# Altium schematic symbol library Howard.SchLib: 217 symbols (part 3 of 5)
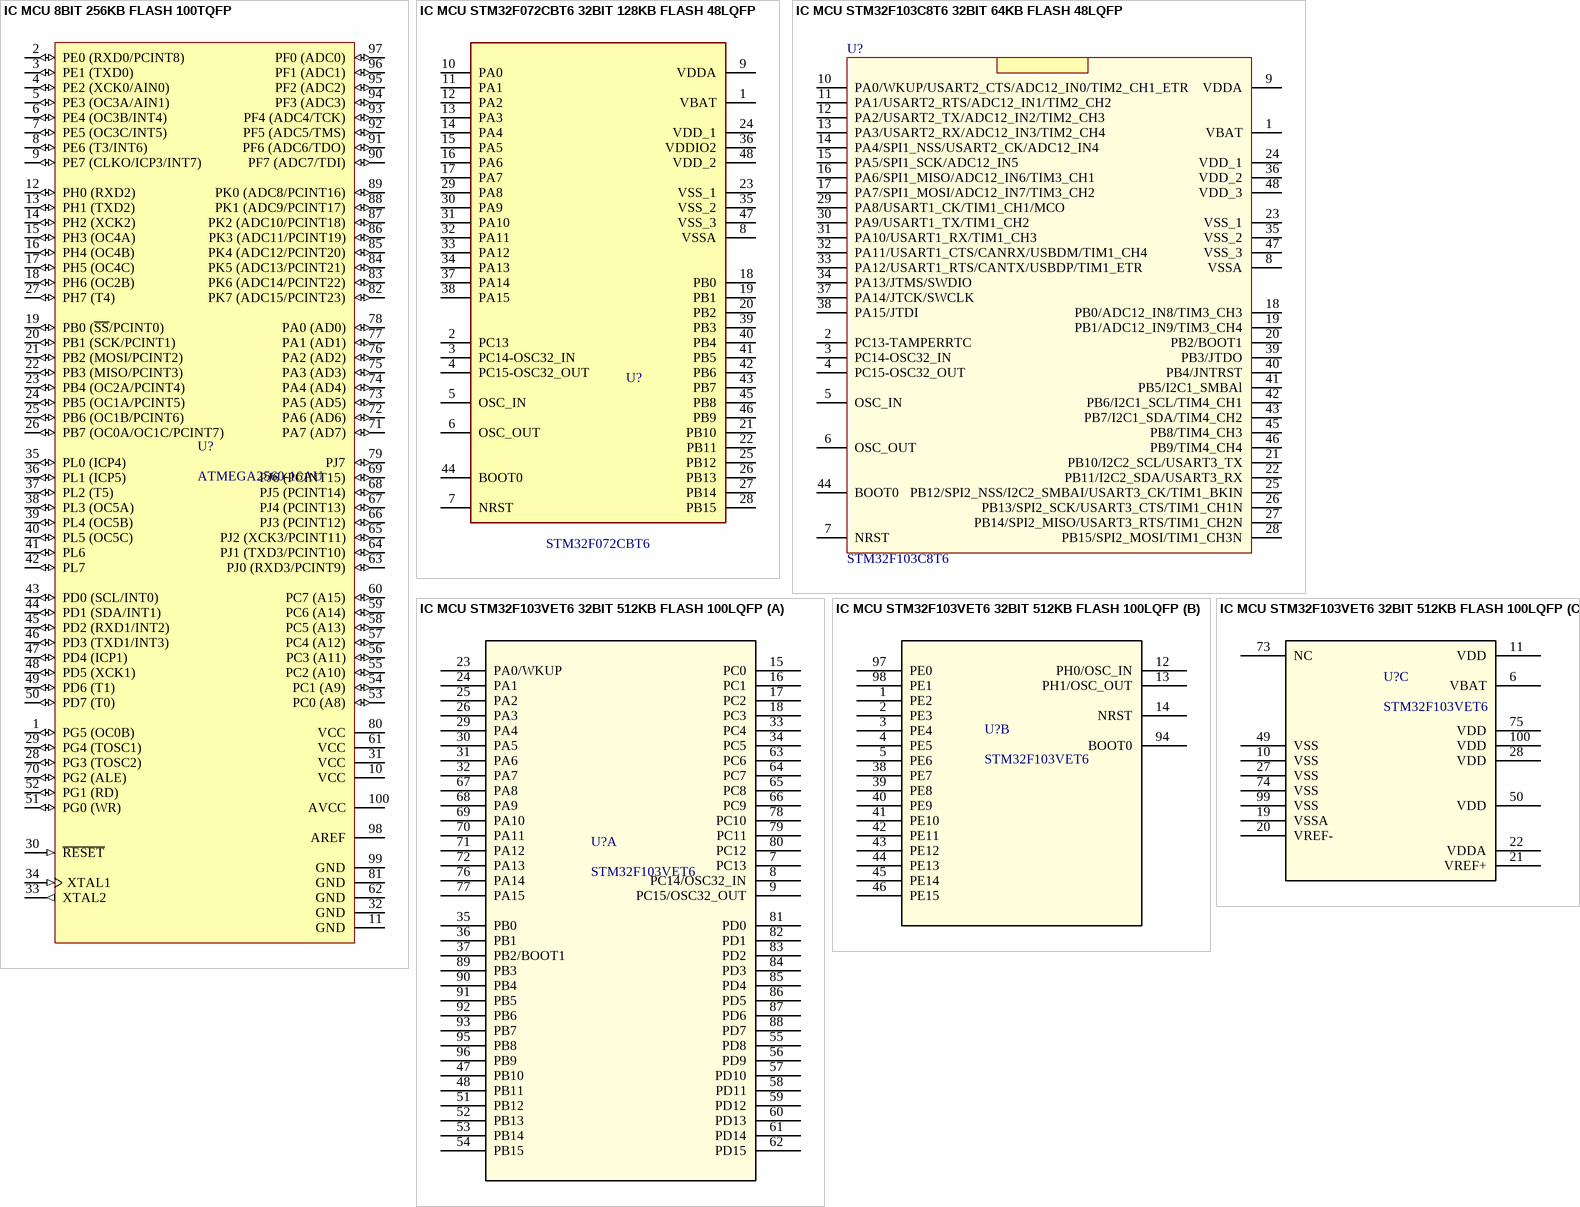
[diagram p9: symbols IC MCU 8BIT 256KB FLASH 100TQFP to IC MCU STM32F103VET6 32BIT 512KB FLASH 100LQFP]

## IC MCU 8BIT 256KB FLASH 100TQFP
designator U?, comment ATMEGA2560-16AU
ATmega Series 256 kB Flash 8 kB SRAM 16 MHz 8-Bit Microcontroller - TQFP-100; Manufacturer: Microchip / Atmel; Number of Terminals/Pins: 100; Package Body Material: Plastic; Core Architecture: AVR; Frequency: 16MHz; Interface: I2C,SPI,UART,USART,EBI/EMI,2-Wire; Number of I/Os: 86; Oscillator Type: Internal; Data Bus Width: 8b; Memory Size: 256KB; Peripherals: PWM,Brown-out Detect/Reset,POR,WDT; Min Supply Voltage: 4.5V; Max Supply Voltage: 5.5V; Number of PWM Channels: 12; Operating Supply Voltage: 5V; RAM Size: 8KB; Number of Timers/Counters: 6; Number of ADC Channels: 16; Number of SPI Channels: 1; Watchdog Timer: Yes; Access Time: 16us; Time @ Peak Reflow Temperature-Max (s): 40s; Supplier 1: Digi-Key; Manufacturer Part Number: ATMEGA2560-16AU; Stock 1: 44194; Pricing 1: 1=14.82 (USD); Mount: Surface Mount; Case/Package: A; Number of Pins: 100; Package Code: TFQFP; Package Shape: Square; Terminal Finish: Tin; Min Operating Temperature: -40°C; Max Operating Temperature: 85°C; Series: AVR® ATmega; Package Quantity: 90; Packaging: Tray; Memory Type: FLASH; Density: 256KB; Number of Programmable I/O: 86; Max Frequency: 16MHz; Number of I2C Channels: 1; Termination: SMD/SMT; Terminal Form: Gull Wing; JESD-30 Code: S-PQFP-G100; Surface Mount: Yes; Terminal Position: QUAD; Number of I/O Lines: 86; Moisture Sensitivity Level: 3; Technology: CMOS; Peak Reflow Temperature (Cel): 260°C; Length: 14.1mm; Width: 14.1mm; Height: 1.05mm; Radiation Hardening: No; Reach SVHC Compliant: Yes; Lead Free: Lead Free; RoHS Compliant: Yes; Temperature Grade: INDUSTRIAL; ComponentLink1URL: https://datasheet.ciiva.com/22651/1698622-22651116.pdf?src-supplier=Farnell; ComponentLink1Description: https://datasheet.ciiva.com/22651/1698622-22651116.pdf?src-supplier=Farnell; ComponentLink2URL: https://datasheet.ciiva.com/15122/getdatasheetpartid-134542-15122545.pdf?src-supplier=Verical; ComponentLink2Description: https://datasheet.ciiva.com/15122/getdatasheetpartid-134542-15122545.pdf?src-supplier=Verical; ComponentLink3URL: https://datasheet.ciiva.com/29119/154804-da-01-en-atmega2560-16au-tqfp-100-29119580.pdf?src-supplier=Conrad; ComponentLink3Description: https://datasheet.ciiva.com/29119/154804-da-01-en-atmega2560-16au-tqfp-100-29119580.pdf?src-supplier=Conrad; ComponentLink4URL: https://datasheet.ciiva.com/1157/1817551-1157521.pdf?src-supplier=Element14; ComponentLink4Description: https://datasheet.ciiva.com/1157/1817551-1157521.pdf?src-supplier=Element14; ComponentLink5URL: https://datasheet.ciiva.com/16936/70123980-16936268.pdf?src-supplier=Allied+Electronics; ComponentLink5Description: https://datasheet.ciiva.com/16936/70123980-16936268.pdf?src-supplier=Allied+Electronics; Supplier Part Number 1: ATMEGA2560-16AU-ND
footprint LQFP100-14x14mm
pins: 1 PG5 (OC0B) (io), 2 PE0 (RXD0/PCINT8) (io), 3 PE1 (TXD0) (io), 4 PE2 (XCK0/AIN0) (io), 5 PE3 (OC3A/AIN1) (io), 6 PE4 (OC3B/INT4) (io), 7 PE5 (OC3C/INT5) (io), 8 PE6 (T3/INT6) (io), 9 PE7 (CLKO/ICP3/INT7) (io), 10 VCC (power), 11 GND (power), 12 PH0 (RXD2) (io), 13 PH1 (TXD2) (io), 14 PH2 (XCK2) (io), 15 PH3 (OC4A) (io), 16 PH4 (OC4B) (io), 17 PH5 (OC4C) (io), 18 PH6 (OC2B) (io), 19 PB0 (~{SS}/PCINT0) (io), 20 PB1 (SCK/PCINT1) (io), 21 PB2 (MOSI/PCINT2) (io), 22 PB3 (MISO/PCINT3) (io), 23 PB4 (OC2A/PCINT4) (io), 24 PB5 (OC1A/PCINT5) (io), 25 PB6 (OC1B/PCINT6) (io), 26 PB7 (OC0A/OC1C/PCINT7) (io), 27 PH7 (T4) (io), 28 PG3 (TOSC2) (io), 29 PG4 (TOSC1) (io), 30 ~{RESET} (in), 31 VCC (power), 32 GND (power), 33 XTAL2 (out), 34 XTAL1 (in), 35 PL0 (ICP4) (io), 36 PL1 (ICP5) (io), 37 PL2 (T5) (io), 38 PL3 (OC5A) (io), 39 PL4 (OC5B) (io), 40 PL5 (OC5C) (io), 41 PL6 (io), 42 PL7 (io), 43 PD0 (SCL/INT0) (io), 44 PD1 (SDA/INT1) (io), 45 PD2 (RXD1/INT2) (io), 46 PD3 (TXD1/INT3) (io), 47 PD4 (ICP1) (io), 48 PD5 (XCK1) (io), 49 PD6 (T1) (io), 50 PD7 (T0) (io), 51 PG0 (WR) (io), 52 PG1 (RD) (io), 53 PC0 (A8) (io), 54 PC1 (A9) (io), 55 PC2 (A10) (io), 56 PC3 (A11) (io), 57 PC4 (A12) (io), 58 PC5 (A13) (io), 59 PC6 (A14) (io), 60 PC7 (A15) (io), 61 VCC (power), 62 GND (power), 63 PJ0 (RXD3/PCINT9) (io), 64 PJ1 (TXD3/PCINT10) (io), 65 PJ2 (XCK3/PCINT11) (io), 66 PJ3 (PCINT12) (io), 67 PJ4 (PCINT13) (io), 68 PJ5 (PCINT14) (io), 69 PJ6 (PCINT15) (io), 70 PG2 (ALE) (io), 71 PA7 (AD7) (io), 72 PA6 (AD6) (io), 73 PA5 (AD5) (io), 74 PA4 (AD4) (io), 75 PA3 (AD3) (io), 76 PA2 (AD2) (io), 77 PA1 (AD1) (io), 78 PA0 (AD0) (io), 79 PJ7 (io), 80 VCC (power), 81 GND (power), 82 PK7 (ADC15/PCINT23) (io), 83 PK6 (ADC14/PCINT22) (io), 84 PK5 (ADC13/PCINT21) (io), 85 PK4 (ADC12/PCINT20) (io), 86 PK3 (ADC11/PCINT19) (io), 87 PK2 (ADC10/PCINT18) (io), 88 PK1 (ADC9/PCINT17) (io), 89 PK0 (ADC8/PCINT16) (io), 90 PF7 (ADC7/TDI) (io), 91 PF6 (ADC6/TDO) (io), 92 PF5 (ADC5/TMS) (io), 93 PF4 (ADC4/TCK) (io), 94 PF3 (ADC3) (io), 95 PF2 (ADC2) (io), 96 PF1 (ADC1) (io), 97 PF0 (ADC0) (io), 98 AREF (power), 99 GND (power), 100 AVCC (power)

## IC MCU STM32F072CBT6 32BIT 128KB FLASH 48LQFP
designator U?, comment STM32F072CBT6
MCU 32-Bit GP STM32F 32MHz ARM Cortex M0+ RISC 128kB Flash 48-Pin LQFP T/R; Manufacturer: STMicroelectronics; Manufacturer Part Number: STM32F072CBT6TR; Max Power Dissipation: 370mW; RAM Size: 16KB; Interface: I2C,SPI,USB,CAN,HDMI,IrDA,UART,USART,LIN,I2S; Number of I/Os: 37; Data Bus Width: 32b; Max Frequency: 48MHz; Number of Timers/Counters: 9; Oscillator Type: Internal; Watchdog Timer: Yes; Peripherals: POR,PWM,WDT,DMA; Datasheet Link: https://datasheet.lcsc.com/lcsc/2304140030_STMicroelectronics-STM32F072CBT6_C81720.pdf; Distributor: LCSC; Distributor PN: C81720; Manufacturer PN: STM32F072CBT6; Price: $1.6164; Sale Link: https://www.lcsc.com/product-detail/Microcontroller-Units-MCUs-MPUs-SOCs_STMicroelectronics-STM32F072CBT6_C81720.html; Supplier 1: Mouser; RoHS: Yes; Category: Microcontrollers; Stock 1: 3974; Pricing 1: 1=5.37, 10=4.83, 50=4.83, 100=3.95, 1000=2.84, 10000=2.69 (USD); Case/Package: LQFP; Number of Pins: 48; Min Operating Temperature: -40°C; Max Operating Temperature: 85°C; Package Quantity: 2400; Series: STM32 F0; Packaging: Tape and Reel; Memory Type: FLASH; Memory Size: 128KB; Core Architecture: ARM; Number of Programmable I/O: 37; RoHS Compliant: Yes; Lead Free: Lead Free; ComponentLink1URL: https://datasheet.ciiva.com/48492/dm00090510-48492505.pdf?src-supplier=Avnet; ComponentLink1Description: https://datasheet.ciiva.com/48492/dm00090510-48492505.pdf?src-supplier=Avnet; Supplier Part Number 1: 511-STM32F072CBT6TR; Value: STM32F072CBT6
footprint LQFP48-B
pins: 1 VBAT, 2 PC13, 3 PC14-OSC32_IN, 4 PC15-OSC32_OUT, 5 OSC_IN, 6 OSC_OUT, 7 NRST, 8 VSSA, 9 VDDA, 10 PA0, 11 PA1, 12 PA2, 13 PA3, 14 PA4, 15 PA5, 16 PA6, 17 PA7, 18 PB0, 19 PB1, 20 PB2, 21 PB10, 22 PB11, 23 VSS_1, 24 VDD_1, 25 PB12, 26 PB13, 27 PB14, 28 PB15, 29 PA8, 30 PA9, 31 PA10, 32 PA11, 33 PA12, 34 PA13, 35 VSS_2, 36 VDDIO2, 37 PA14, 38 PA15, 39 PB3, 40 PB4, 41 PB5, 42 PB6, 43 PB7, 44 BOOT0, 45 PB8, 46 PB9, 47 VSS_3, 48 VDD_2

## IC MCU STM32F103C8T6 32BIT 64KB FLASH 48LQFP
designator U?, comment STM32F103C8T6
ARM Microcontrollers - MCU 32BIT Cortex M3 64KB 20KB RAM 2X12 ADC; Manufacturer: STMicroelectronics; Frequency: 72MHz; Max Power Dissipation: 363mW; Interface: I2C,SPI,USB,CAN,IrDA,UART,USART,LIN; Number of I/Os: 37; Number of Timers/Counters: 4; Max Supply Voltage: 3.6V; Number of ADC Channels: 10; Min Supply Voltage: 2V; Oscillator Type: Internal; Number of Programmable I/O: 48; Data Bus Width: 32b; Number of Bits: 32; Memory Type: FLASH; Watchdog Timer: Yes; Peripherals: POR,PWM,WDT,DMA,Temp Sensor,I2C; Number of PWM Channels: 1; Number of SPI Channels: 2; .Creator: Giang.Le; Supplier 1: Digi-Key; Manufacturer Part Number: STM32F103C8T6; Stock 1: 1032; Pricing 1: 1=6.06, 10=5.438, 100=4.4558, 250=4.2272, 500=3.7931, 1000=3.199 (USD); Case/Package: LQFP; Number of Pins: 48; Min Operating Temperature: -40°C; Max Operating Temperature: 85°C; RAM Size: 20KB; Packaging: Tray; Package Quantity: 250; Density: 64KB; Max Frequency: 72MHz; Memory Size: 64KB; Core Architecture: ARM; Termination: SMD/SMT; Number of I2C Channels: 2; Address Bus Width: 32b; Length: 7mm; Height: 1.45mm; Width: 7.2mm; Radiation Hardening: No; Lead Free: Lead Free; REACH SVHC: No SVHC; ComponentLink1URL: http://www.st.com/web/en/resource/technical/document/datasheet/CD00161566.pdf?src-supplier=Future+Electronics; ComponentLink1Description: http://www.st.com/web/en/resource/technical/document/datasheet/CD00161566.pdf?src-supplier=Future+Electronics; ComponentLink2URL: https://www.distrelec.biz/Web/Downloads/3_/en/puSTM_ARM-MicroCont-STM32F103_EN.pdf?mime=application%2Fpdf&src-supplier=Distrelec; ComponentLink2Description: https://www.distrelec.biz/Web/Downloads/3_/en/puSTM_ARM-MicroCont-STM32F103_EN.pdf?mime=application%2Fpdf&src-supplier=Distrelec; ComponentLink3URL: https://www.verical.com/server-webapp/html/getDatasheet?partID=69880&src-supplier=Verical; ComponentLink3Description: https://www.verical.com/server-webapp/html/getDatasheet?partID=69880&src-supplier=Verical; ComponentLink4URL: http://www.farnell.com/datasheets/1730126.pdf?src-supplier=Element14; ComponentLink4Description: http://www.farnell.com/datasheets/1730126.pdf?src-supplier=Element14; ComponentLink5URL: http://www.produktinfo.conrad.com/datenblaetter/1000000-1099999/001075658-da-01-en-MCU_64KB_MEM_STM32F103C8T6_LQFP_48_STM.pdf?src-supplier=Conrad; ComponentLink5Description: http://www.produktinfo.conrad.com/datenblaetter/1000000-1099999/001075658-da-01-en-MCU_64KB_MEM_STM32F103C8T6_LQFP_48_STM.pdf?src-supplier=Conrad; ComponentLink6URL: http://datasheet.iiic.cc/stmicroelectronics/STM32F103C8T6.pdf?src-supplier=IIIC; ComponentLink6Description: http://datasheet.iiic.cc/stmicroelectronics/STM32F103C8T6.pdf?src-supplier=IIIC; Supplier Part Number 1: 497-6063-ND; .Checked By: *
footprint LQFP48-B (TSQFP, 48-Leads, Body 7.00x7.00mm, Pitch 0.50mm, IPC Medium Density)
pins: 1 VBAT, 2 PC13-TAMPERRTC, 3 PC14-OSC32_IN, 4 PC15-OSC32_OUT, 5 OSC_IN, 6 OSC_OUT, 7 NRST, 8 VSSA, 9 VDDA, 10 PA0/WKUP/USART2_CTS/ADC12_IN0/TIM2_CH1_ETR, 11 PA1/USART2_RTS/ADC12_IN1/TIM2_CH2, 12 PA2/USART2_TX/ADC12_IN2/TIM2_CH3, 13 PA3/USART2_RX/ADC12_IN3/TIM2_CH4, 14 PA4/SPI1_NSS/USART2_CK/ADC12_IN4, 15 PA5/SPI1_SCK/ADC12_IN5, 16 PA6/SPI1_MISO/ADC12_IN6/TIM3_CH1, 17 PA7/SPI1_MOSI/ADC12_IN7/TIM3_CH2, 18 PB0/ADC12_IN8/TIM3_CH3, 19 PB1/ADC12_IN9/TIM3_CH4, 20 PB2/BOOT1, 21 PB10/I2C2_SCL/USART3_TX, 22 PB11/I2C2_SDA/USART3_RX, 23 VSS_1, 24 VDD_1, 25 PB12/SPI2_NSS/I2C2_SMBAI/USART3_CK/TIM1_BKIN, 26 PB13/SPI2_SCK/USART3_CTS/TIM1_CH1N, 27 PB14/SPI2_MISO/USART3_RTS/TIM1_CH2N, 28 PB15/SPI2_MOSI/TIM1_CH3N, 29 PA8/USART1_CK/TIM1_CH1/MCO, 30 PA9/USART1_TX/TIM1_CH2, 31 PA10/USART1_RX/TIM1_CH3, 32 PA11/USART1_CTS/CANRX/USBDM/TIM1_CH4, 33 PA12/USART1_RTS/CANTX/USBDP/TIM1_ETR, 34 PA13/JTMS/SWDIO, 35 VSS_2, 36 VDD_2, 37 PA14/JTCK/SWCLK, 38 PA15/JTDI, 39 PB3/JTDO, 40 PB4/JNTRST, 41 PB5/I2C1_SMBAl, 42 PB6/I2C1_SCL/TIM4_CH1, 43 PB7/I2C1_SDA/TIM4_CH2, 44 BOOT0, 45 PB8/TIM4_CH3, 46 PB9/TIM4_CH4, 47 VSS_3, 48 VDD_3

## IC MCU STM32F103VET6 32BIT 512KB FLASH 100LQFP
designator U?, comment STM32F103VET6
No Description Available; Mfr_Name: STMicroelectronics; Manufacturer Part Number: STM32F103VET6TR; Interface: I2C,SPI,CAN,USART,USB,IrDA,UART,LIN; Core Architecture: ARM; Frequency: 72MHz; RAM Size: 64KB; Max Supply Voltage: 3.6V; Max Power Dissipation: 434mW; Number of I/Os: 80; Number of Timers/Counters: 8; Min Supply Voltage: 2V; Data Bus Width: 32b; Oscillator Type: Internal; Watchdog Timer: Yes; Memory Type: FLASH; Memory Size: 512KB; Peripherals: POR,PWM,WDT,DMA,Temp Sensor,I2C; RefDes: RefDes; Type: Type; Supplier 1: Digi-Key; Manufacturer: STMicroelectronics; Stock 1: 997; Pricing 1: 1=11.36, 10=10.444, 25=10.0112, 100=8.8208, 250=8.38784, 500=7.8467 (USD); Case/Package: LQFP; Number of Pins: 100; Contact Plating: Copper,Tin,Silver; Min Operating Temperature: -40°C; Max Operating Temperature: 85°C; Package Quantity: 1000; Packaging: Tape and Reel; Series: STM32 F1; Number of Programmable I/O: 80; Max Frequency: 72MHz; Radiation Hardening: No; Lead Free: Lead Free; RoHS Compliant: Yes; ComponentLink1URL: https://datasheet.ciiva.com/16289/cd00191185-16289086.pdf?src-supplier=Future+Electronics; ComponentLink1Description: https://datasheet.ciiva.com/16289/cd00191185-16289086.pdf?src-supplier=Future+Electronics; ComponentLink2URL: https://datasheet.ciiva.com/6645/cd00191185-6645573.pdf?src-supplier=Digi-Key; ComponentLink2Description: https://datasheet.ciiva.com/6645/cd00191185-6645573.pdf?src-supplier=Digi-Key; Supplier Part Number 1: 497-17394-6-ND
footprint LQFP100-14x14mm
part A pins: 7 PC13, 8 PC14/OSC32_IN, 9 PC15/OSC32_OUT, 15 PC0, 16 PC1, 17 PC2, 18 PC3, 23 PA0/WKUP, 24 PA1, 25 PA2, 26 PA3, 29 PA4, 30 PA5, 31 PA6, 32 PA7, 33 PC4, 34 PC5, 35 PB0, 36 PB1, 37 PB2/BOOT1, 47 PB10, 48 PB11, 51 PB12, 52 PB13, 53 PB14, 54 PB15, 55 PD8, 56 PD9, 57 PD10, 58 PD11, 59 PD12, 60 PD13, 61 PD14, 62 PD15, 63 PC6, 64 PC7, 65 PC8, 66 PC9, 67 PA8, 68 PA9, 69 PA10, 70 PA11, 71 PA12, 72 PA13, 76 PA14, 77 PA15, 78 PC10, 79 PC11, 80 PC12, 81 PD0, 82 PD1, 83 PD2, 84 PD3, 85 PD4, 86 PD5, 87 PD6, 88 PD7, 89 PB3, 90 PB4, 91 PB5, 92 PB6, 93 PB7, 95 PB8, 96 PB9
part B pins: 1 PE2, 2 PE3, 3 PE4, 4 PE5, 5 PE6, 12 PH0/OSC_IN, 13 PH1/OSC_OUT, 14 NRST, 38 PE7, 39 PE8, 40 PE9, 41 PE10, 42 PE11, 43 PE12, 44 PE13, 45 PE14, 46 PE15, 94 BOOT0, 97 PE0, 98 PE1
part C pins: 6 VBAT (power), 10 VSS (power), 11 VDD (power), 19 VSSA (power), 20 VREF- (power), 21 VREF+ (power), 22 VDDA (power), 27 VSS (power), 28 VDD (power), 49 VSS (power), 50 VDD (power), 73 NC (power), 74 VSS (power), 75 VDD (power), 99 VSS (power), 100 VDD (power)

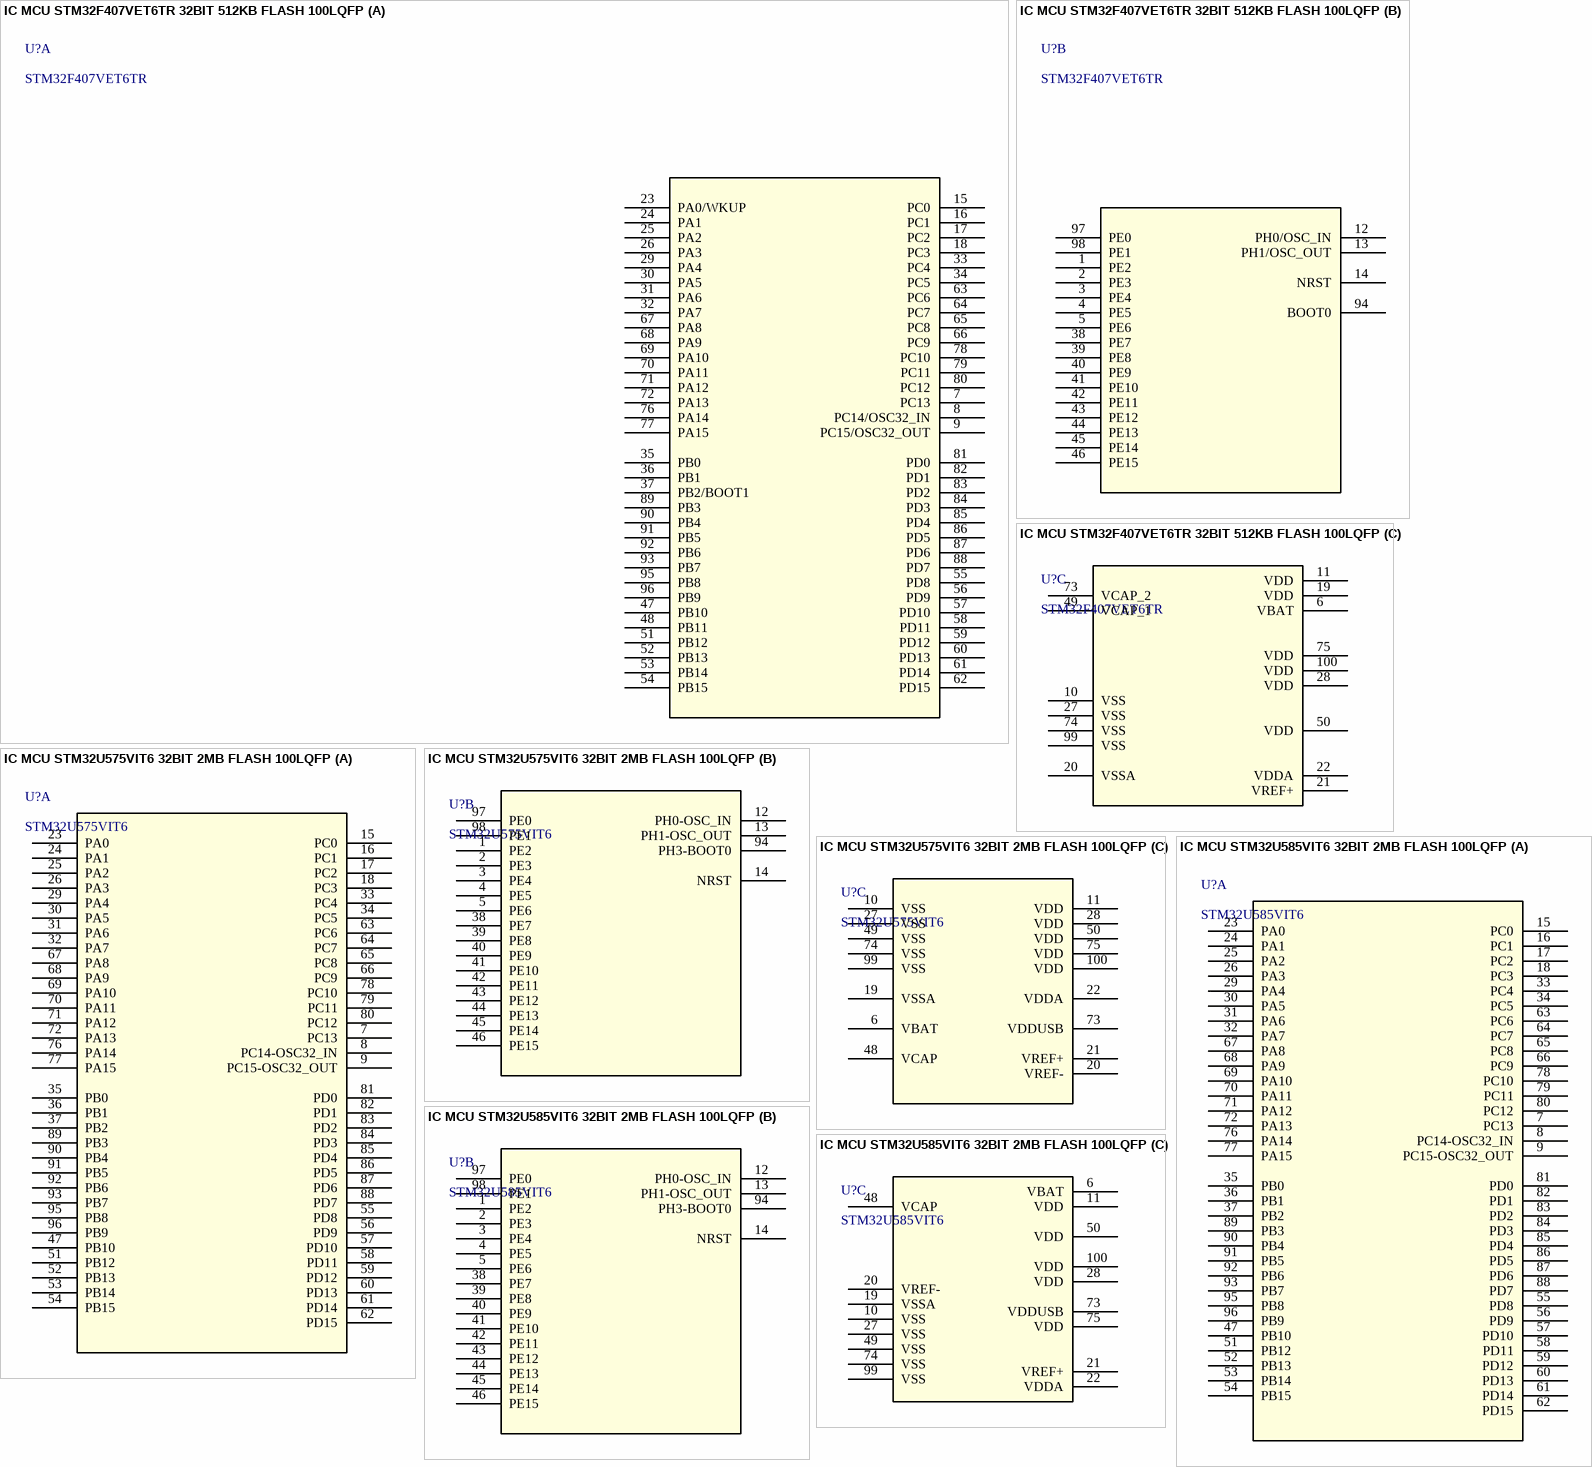
[diagram p4: symbols IC MCU STM32F407VET6TR 32BIT 512KB FLASH 100LQFP to IC MCU STM32U585VIT6 32BIT 2MB FLASH 100LQFP]

## IC MCU STM32F407VET6TR 32BIT 512KB FLASH 100LQFP
designator U?, comment STM32F407VET6TR
ARM® Cortex®-M4 STM32F4 Microcontroller IC 32-Bit Single-Core 168MHz 512KB (512K x 8) FLASH 100-LQFP (14x14); Mfr_Name: STMicroelectronics; Interface: I2C,SPI,USB,CAN,Ethernet,IrDA,UART,USART,LIN,EBI/EMI; Number of I/Os: 82; Oscillator Type: Internal; Peripherals: Brown-out Detect/Reset,POR,PWM,WDT,DMA,LCD; Core Architecture: ARM; RefDes: RefDes; Type: Type; Supplier 1: Digi-Key; Manufacturer: STMicroelectronics; Manufacturer Part Number: STM32F407VET6TR; Stock 1: 0; Pricing 1: 1=13.38, 10=12.299, 25=11.7896, 100=10.3876, 250=9.8778, 500=9.2405 (USD); Case/Package: LQFP; Min Operating Temperature: -40°C; Max Operating Temperature: 85°C; Packaging: Tape and Reel; Frequency: 168MHz; Memory Type: FLASH; Memory Size: 512KB; Series: STM32 F4; RoHS Compliant: Yes; ComponentLink1URL: http://www.mouser.com/ds/2/389/stm32f405rg-956214.pdf?src-supplier=Mouser; ComponentLink1Description: http://www.mouser.com/ds/2/389/stm32f405rg-956214.pdf?src-supplier=Mouser; ComponentLink2URL: http://www.st.com/web/en/resource/technical/document/datasheet/DM00037051.pdf?src-supplier=Avnet; ComponentLink2Description: http://www.st.com/web/en/resource/technical/document/datasheet/DM00037051.pdf?src-supplier=Avnet; ComponentLink3URL: http://www.st.com/content/ccc/resource/technical/document/datasheet/ef/92/76/6d/bb/c2/4f/f7/DM00037051.pdf/files/DM00037051.pdf/jcr:content/translations/en.DM00037051.pdf?src-supplier=Digi-Key; ComponentLink3Description: http://www.st.com/content/ccc/resource/technical/document/datasheet/ef/92/76/6d/bb/c2/4f/f7/DM00037051.pdf/files/DM00037051.pdf/jcr:content/translations/en.DM00037051.pdf?src-supplier=Digi-Key; Supplier Part Number 1: 497-19657-1-ND
footprint LQFP100-14x14mm
part A pins: 7 PC13, 8 PC14/OSC32_IN, 9 PC15/OSC32_OUT, 15 PC0, 16 PC1, 17 PC2, 18 PC3, 23 PA0/WKUP, 24 PA1, 25 PA2, 26 PA3, 29 PA4, 30 PA5, 31 PA6, 32 PA7, 33 PC4, 34 PC5, 35 PB0, 36 PB1, 37 PB2/BOOT1, 47 PB10, 48 PB11, 51 PB12, 52 PB13, 53 PB14, 54 PB15, 55 PD8, 56 PD9, 57 PD10, 58 PD11, 59 PD12, 60 PD13, 61 PD14, 62 PD15, 63 PC6, 64 PC7, 65 PC8, 66 PC9, 67 PA8, 68 PA9, 69 PA10, 70 PA11, 71 PA12, 72 PA13, 76 PA14, 77 PA15, 78 PC10, 79 PC11, 80 PC12, 81 PD0, 82 PD1, 83 PD2, 84 PD3, 85 PD4, 86 PD5, 87 PD6, 88 PD7, 89 PB3, 90 PB4, 91 PB5, 92 PB6, 93 PB7, 95 PB8, 96 PB9
part B pins: 1 PE2, 2 PE3, 3 PE4, 4 PE5, 5 PE6, 12 PH0/OSC_IN, 13 PH1/OSC_OUT, 14 NRST, 38 PE7, 39 PE8, 40 PE9, 41 PE10, 42 PE11, 43 PE12, 44 PE13, 45 PE14, 46 PE15, 94 BOOT0, 97 PE0, 98 PE1
part C pins: 6 VBAT (power), 10 VSS (power), 11 VDD (power), 19 VDD (power), 20 VSSA (power), 21 VREF+ (power), 22 VDDA (power), 27 VSS (power), 28 VDD (power), 49 VCAP_1 (power), 50 VDD (power), 73 VCAP_2 (power), 74 VSS (power), 75 VDD (power), 99 VSS (power), 100 VDD (power)

## IC MCU STM32U575VIT6 32BIT 2MB FLASH 100LQFP
designator U?, comment STM32U575VIT6
ARM® Cortex®-M33 STM32U5 Microcontroller IC 32-Bit 160MHz 2MB (2M x 8) FLASH 100-LQFP (14x14); Mfr_Name: STMicroelectronics; Manufacturer Part Number: STM32U575VIT6Q; RefDes: RefDes; Type: Type; Supplier 1: Digi-Key; Manufacturer: STMicroelectronics; Stock 1: 0; Pricing 1: 1=11.87, 10=10.913, 25=10.4608, 100=9.2168, 250=8.7644, 500=8.19898, 1000=8.0016 (USD); Supplier Part Number 1: 497-STM32U575VIT6Q-ND
footprint LQFP100-14x14mm
part A pins: 7 PC13, 8 PC14-OSC32_IN, 9 PC15-OSC32_OUT, 15 PC0, 16 PC1, 17 PC2, 18 PC3, 23 PA0, 24 PA1, 25 PA2, 26 PA3, 29 PA4, 30 PA5, 31 PA6, 32 PA7, 33 PC4, 34 PC5, 35 PB0, 36 PB1, 37 PB2, 47 PB10, 51 PB12, 52 PB13, 53 PB14, 54 PB15, 55 PD8, 56 PD9, 57 PD10, 58 PD11, 59 PD12, 60 PD13, 61 PD14, 62 PD15, 63 PC6, 64 PC7, 65 PC8, 66 PC9, 67 PA8, 68 PA9, 69 PA10, 70 PA11, 71 PA12, 72 PA13, 76 PA14, 77 PA15, 78 PC10, 79 PC11, 80 PC12, 81 PD0, 82 PD1, 83 PD2, 84 PD3, 85 PD4, 86 PD5, 87 PD6, 88 PD7, 89 PB3, 90 PB4, 91 PB5, 92 PB6, 93 PB7, 95 PB8, 96 PB9
part B pins: 1 PE2, 2 PE3, 3 PE4, 4 PE5, 5 PE6, 12 PH0-OSC_IN, 13 PH1-OSC_OUT, 14 NRST, 38 PE7, 39 PE8, 40 PE9, 41 PE10, 42 PE11, 43 PE12, 44 PE13, 45 PE14, 46 PE15, 94 PH3-BOOT0, 97 PE0, 98 PE1
part C pins: 6 VBAT, 10 VSS, 11 VDD, 19 VSSA, 20 VREF-, 21 VREF+, 22 VDDA, 27 VSS, 28 VDD, 48 VCAP, 49 VSS, 50 VDD, 73 VDDUSB, 74 VSS, 75 VDD, 99 VSS, 100 VDD

## IC MCU STM32U585VIT6 32BIT 2MB FLASH 100LQFP
designator U?, comment STM32U585VIT6
ARM® Cortex®-M33 STM32U5 Microcontroller IC 32-Bit 160MHz 2MB (2M x 8) FLASH 100-LQFP (14x14); Mfr_Name: STMicroelectronics; Manufacturer Part Number: STM32U575VIT6Q; RefDes: RefDes; Type: Type; Manufacturer: STMicroelectronics; Supplier 1: Digi-Key; Stock 1: 497; Pricing 1: 1=12.12, 10=11.142, 25=10.6804, 100=9.4103, 250=8.94844, 500=8.37112, 1000=8.1696 (USD); Supplier Part Number 1: 497-STM32U585VIT6-ND
footprint LQFP100-14x14mm
part A pins: 7 PC13, 8 PC14-OSC32_IN, 9 PC15-OSC32_OUT, 15 PC0, 16 PC1, 17 PC2, 18 PC3, 23 PA0, 24 PA1, 25 PA2, 26 PA3, 29 PA4, 30 PA5, 31 PA6, 32 PA7, 33 PC4, 34 PC5, 35 PB0, 36 PB1, 37 PB2, 47 PB10, 51 PB12, 52 PB13, 53 PB14, 54 PB15, 55 PD8, 56 PD9, 57 PD10, 58 PD11, 59 PD12, 60 PD13, 61 PD14, 62 PD15, 63 PC6, 64 PC7, 65 PC8, 66 PC9, 67 PA8, 68 PA9, 69 PA10, 70 PA11, 71 PA12, 72 PA13, 76 PA14, 77 PA15, 78 PC10, 79 PC11, 80 PC12, 81 PD0, 82 PD1, 83 PD2, 84 PD3, 85 PD4, 86 PD5, 87 PD6, 88 PD7, 89 PB3, 90 PB4, 91 PB5, 92 PB6, 93 PB7, 95 PB8, 96 PB9
part B pins: 1 PE2, 2 PE3, 3 PE4, 4 PE5, 5 PE6, 12 PH0-OSC_IN, 13 PH1-OSC_OUT, 14 NRST, 38 PE7, 39 PE8, 40 PE9, 41 PE10, 42 PE11, 43 PE12, 44 PE13, 45 PE14, 46 PE15, 94 PH3-BOOT0, 97 PE0, 98 PE1
part C pins: 6 VBAT, 10 VSS, 11 VDD, 19 VSSA, 20 VREF-, 21 VREF+, 22 VDDA, 27 VSS, 28 VDD, 48 VCAP, 49 VSS, 50 VDD, 73 VDDUSB, 74 VSS, 75 VDD, 99 VSS, 100 VDD

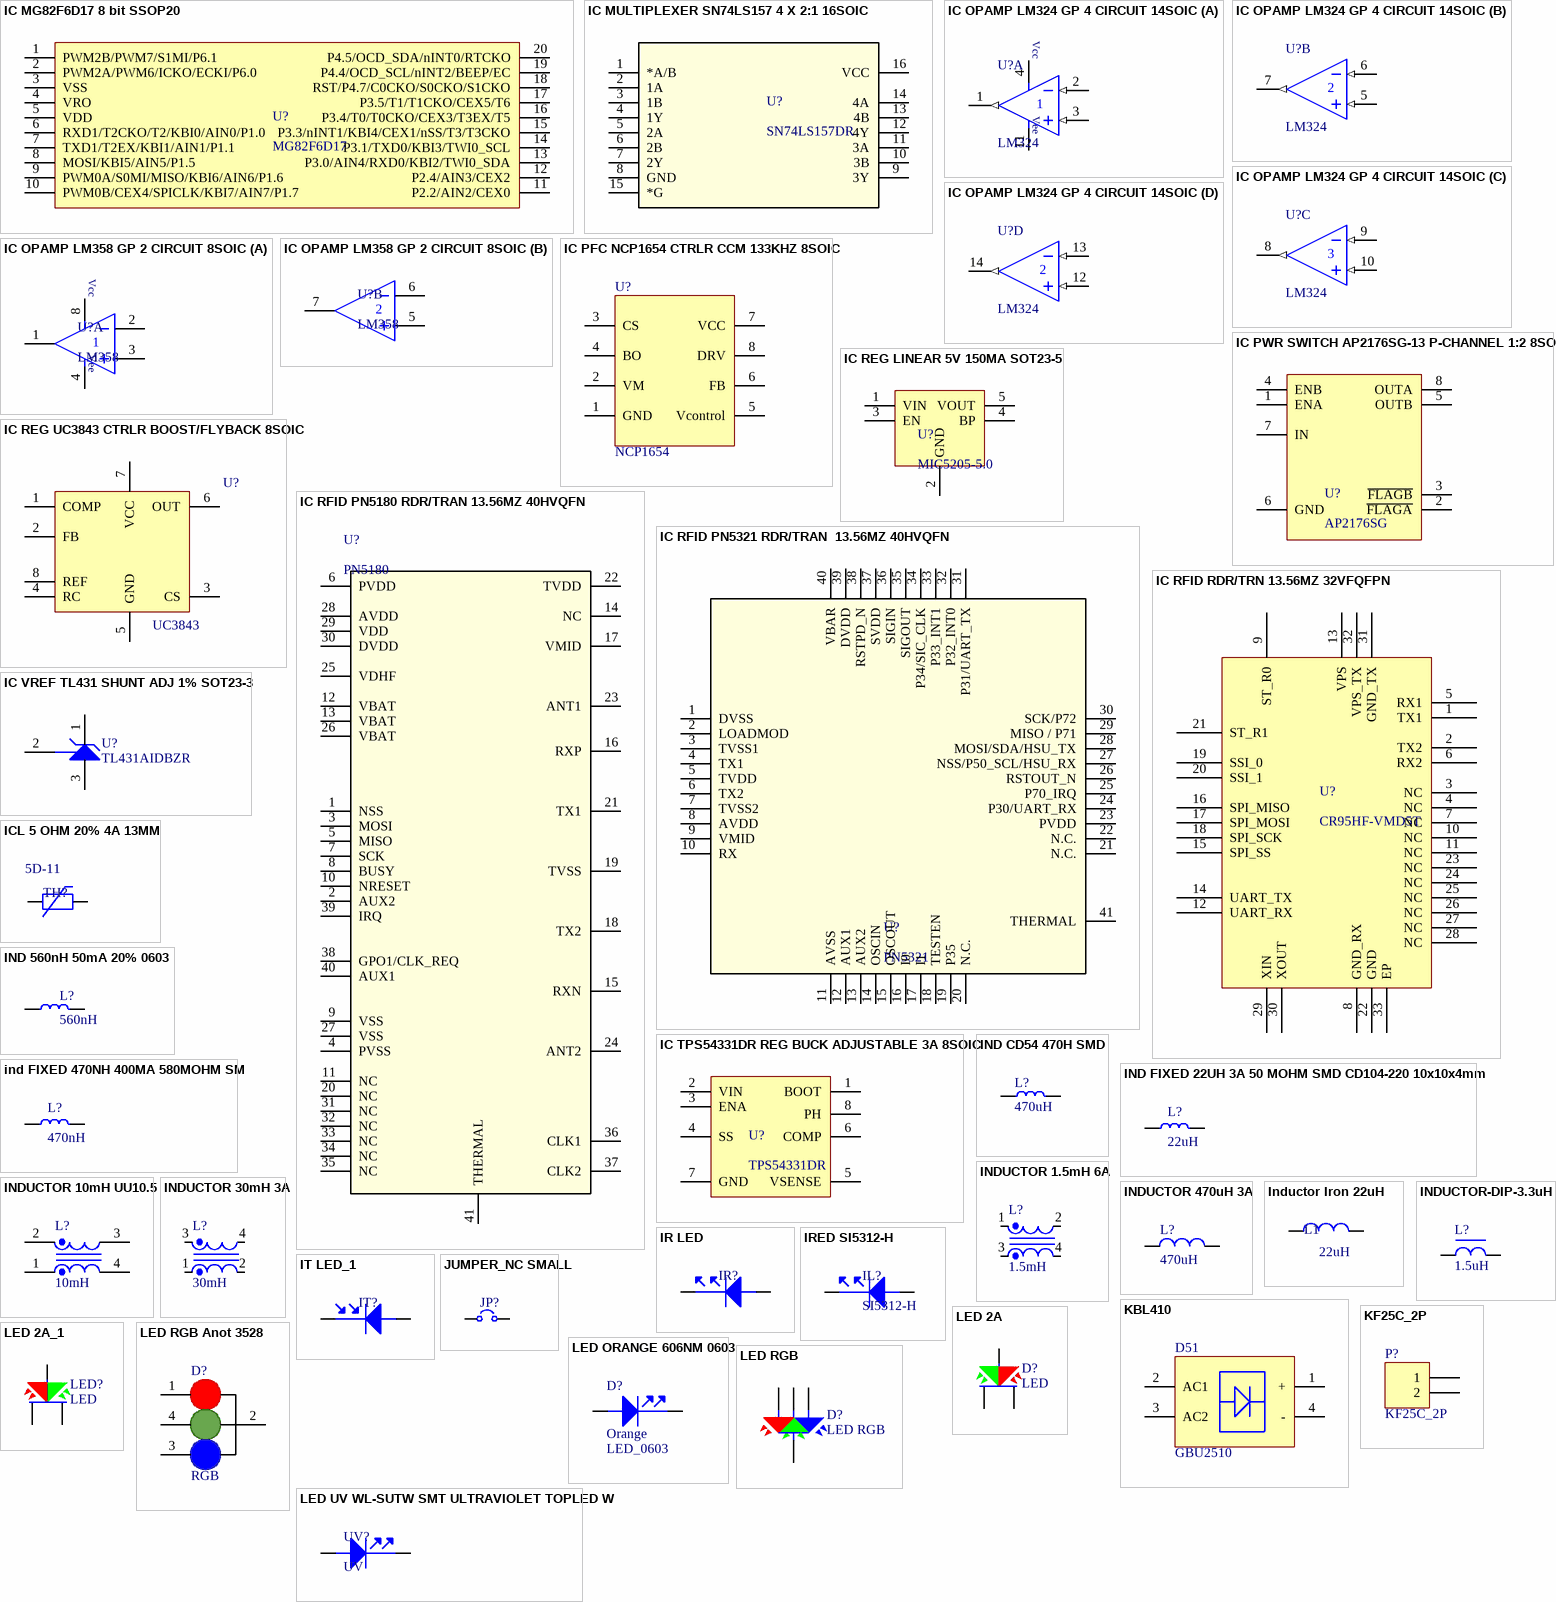
[diagram p5: symbols IC MG82F6D17 8 bit SSOP20 to LED UV WL-SUTW SMT ULTRAVIOLET TOPLED W]

## IC MG82F6D17 8 bit SSOP20
designator U?, comment MG82F6D17
8051-Based MCU
footprint SSOP20
pins: 1 PWM2B/PWM7/S1MI/P6.1, 2 PWM2A/PWM6/ICKO/ECKI/P6.0, 3 VSS, 4 VRO, 5 VDD, 6 RXD1/T2CKO/T2/KBI0/AIN0/P1.0, 7 TXD1/T2EX/KBI1/AIN1/P1.1, 8 MOSI/KBI5/AIN5/P1.5, 9 PWM0A/S0MI/MISO/KBI6/AIN6/P1.6, 10 PWM0B/CEX4/SPICLK/KBI7/AIN7/P1.7, 11 P2.2/AIN2/CEX0, 12 P2.4/AIN3/CEX2, 13 P3.0/AIN4/RXD0/KBI2/TWI0_SDA, 14 P3.1/TXD0/KBI3/TWI0_SCL, 15 P3.3/nINT1/KBI4/CEX1/nSS/T3/T3CKO, 16 P3.4/T0/T0CKO/CEX3/T3EX/T5, 17 P3.5/T1/T1CKO/CEX5/T6, 18 RST/P4.7/C0CKO/S0CKO/S1CKO, 19 P4.4/OCD_SCL/nINT2/BEEP/EC, 20 P4.5/OCD_SDA/nINT0/RTCKO

## IC MULTIPLEXER SN74LS157 4 X 2:1 16SOIC
designator U?, comment SN74LS157DR
Quadruple 2-Line To 1-Line Data Selectors/Multiplexers 16-SOIC 0 to 70; Manufacturer: Texas Instruments; Min Supply Voltage: 4.75V; Max Supply Voltage: 5.25V; Propagation Delay: 14ns; Operating Supply Voltage: 5V; Number of Outputs: 4; Number of Inputs: 8; Number of Input Lines: 2; Number of Output Lines: 1; Low Level Output Current: 8mA; High Level Output Current: -400uA; Supply Type: Single; Bandwidth: 35MHz; Polarity: Non-Inverting; Quiescent Current: 9.7mA; Power Dissipation: 49mW; Throw Configuration: DPST; Supplier 1: Digi-Key; Manufacturer Part Number: SN74LS157DR; Stock 1: 4156; Pricing 1: 1=0.78, 10=0.687, 25=0.6448, 100=0.5264, 250=0.48896, 500=0.41612, 1000=0.3329 (USD); Mount: Surface Mount; Case/Package: SOIC; Number of Pins: 16; Weight: 0.004998oz; Min Operating Temperature: 0°C; Max Operating Temperature: 70°C; Package Quantity: 1; Packaging: Tape and Reel; Logic Function: Multiplexer; Number of Bits: 4; Independent Circuits: 1; Number of Channels: 4; Series: 74LS; Number of Circuits: 4; Radiation Hardening: No; Lead Free: Lead Free; RoHS Compliant: Yes; ComponentLink1URL: https://datasheet.ciiva.com/15087/getdatasheetpartid-549385-15087775.pdf?src-supplier=Verical; ComponentLink1Description: https://datasheet.ciiva.com/15087/getdatasheetpartid-549385-15087775.pdf?src-supplier=Verical; ComponentLink2URL: https://datasheet.ciiva.com/1888/sn74ls157-1888856.pdf?src-supplier=Digi-Key; ComponentLink2Description: https://datasheet.ciiva.com/1888/sn74ls157-1888856.pdf?src-supplier=Digi-Key; ComponentLink3URL: https://datasheet.ciiva.com/1888/sn74ls157-1888855.pdf?src-supplier=Digi-Key; ComponentLink3Description: https://datasheet.ciiva.com/1888/sn74ls157-1888855.pdf?src-supplier=Digi-Key; ComponentLink4URL: https://datasheet.ciiva.com/1888/sn74ls157-1888857.pdf?src-supplier=Digi-Key; ComponentLink4Description: https://datasheet.ciiva.com/1888/sn74ls157-1888857.pdf?src-supplier=Digi-Key; ComponentLink5URL: https://datasheet.ciiva.com/48703/001074832-da-01-en-ic-quad-2-1-data-sn74ls157dr-soic-16-tid-48703978.pdf?src-supplier=Conrad; ComponentLink5Description: https://datasheet.ciiva.com/48703/001074832-da-01-en-ic-quad-2-1-data-sn74ls157dr-soic-16-tid-48703978.pdf?src-supplier=Conrad; Supplier Part Number 1: 296-14884-1-ND
footprint D16-M
pins: 1 *A/B, 2 1A, 3 1B, 4 1Y, 5 2A, 6 2B, 7 2Y, 8 GND, 9 3Y, 10 3B, 11 3A, 12 4Y, 13 4B, 14 4A, 15 *G, 16 VCC

## IC OPAMP LM324 GP 4 CIRCUIT 14SOIC
designator U?, comment LM324
General Purpose Amplifier 4 Circuit  14-SOIC; Manufacturer: Texas Instruments; Manufacturer Part Number: LM324DR; Number of Circuits: 4; Gain Bandwidth Product: 1.2MHz; Slew Rate: 0.5V/µs; Input Offset Voltage (Vos): 7mV; Input Bias Current: 250nA; Operating Supply Current: 1.4mA; Output Current per Channel: 40mA; Common Mode Rejection Ratio: 65dB; Output Current: 30mA; Max Supply Voltage: 32V; Min Supply Voltage: 3V; Min Dual Supply Voltage: 1.5V; Max Dual Supply Voltage: 16V; Voltage Gain: 100dB; Supply Current: 3mA; Supplier 1: Mouser; RoHS: Yes; Category: Amplifiers - Op Amps, Buffer, Instrumentation; Stock 1: 42804; Pricing 1: 1=0.37, 10=0.274, 50=0.274, 100=0.153, 1000=0.115, 2500=0.096, 10000=0.082, 50000=0.08, 100000=0.074 (USD); Mount: Surface Mount; Case/Package: SOIC; Number of Pins: 14; Min Operating Temperature: 0°C; Max Operating Temperature: 70°C; Packaging: Tape and Reel; Number of Channels: 4; Series: -; Package Quantity: 2500; Amplifier Type: GENERAL PURPOSE; Bandwidth: 1.2MHz; Operating Supply Voltage: 16V; Technology: BIPOLAR; Number of Amplifiers: 4; Number of Elements: 4; Unity Gain Bandwidth Product: 1.2MHz; Radiation Hardening: No; Lead Free: Lead Free; RoHS Compliant: Yes; Reach SVHC Compliant: No; ComponentLink1URL: https://datasheet.ciiva.com/34301/902590-34301708.pdf?src-supplier=Jameco; ComponentLink1Description: https://datasheet.ciiva.com/34301/902590-34301708.pdf?src-supplier=Jameco; ComponentLink2URL: https://datasheet.ciiva.com/1795/lm224-1795532.pdf?src-supplier=Digi-Key; ComponentLink2Description: https://datasheet.ciiva.com/1795/lm224-1795532.pdf?src-supplier=Digi-Key; ComponentLink3URL: https://datasheet.ciiva.com/1795/lm224-1795533.pdf?src-supplier=Digi-Key; ComponentLink3Description: https://datasheet.ciiva.com/1795/lm224-1795533.pdf?src-supplier=Digi-Key; ComponentLink4URL: https://datasheet.ciiva.com/1795/lm224-1795534.pdf?src-supplier=Digi-Key; ComponentLink4Description: https://datasheet.ciiva.com/1795/lm224-1795534.pdf?src-supplier=Digi-Key; ComponentLink5URL: https://datasheet.ciiva.com/2973/lm324ka-2973348.pdf?src-supplier=Avnet; ComponentLink5Description: https://datasheet.ciiva.com/2973/lm324ka-2973348.pdf?src-supplier=Avnet; ComponentLink6URL: https://datasheet.ciiva.com/5997/1768103-5997421.pdf?src-supplier=Farnell; ComponentLink6Description: https://datasheet.ciiva.com/5997/1768103-5997421.pdf?src-supplier=Farnell; ComponentLink7URL: https://datasheet.ciiva.com/46385/1877076-46385751.pdf?src-supplier=Element14; ComponentLink7Description: https://datasheet.ciiva.com/46385/1877076-46385751.pdf?src-supplier=Element14; ComponentLink8URL: https://datasheet.ciiva.com/7709/1840878-7709814.pdf?src-supplier=Element14; ComponentLink8Description: https://datasheet.ciiva.com/7709/1840878-7709814.pdf?src-supplier=Element14; Supplier Part Number 1: 595-LM324DR
footprint SO14A (SOIC, 14-Leads, Body 8.60x3.90mm, Pitch 1.27mm, IPC Medium Density)
part A pins: 1 OUT (out), 2 IN- (in), 3 IN+ (in), 4 V+ (power), 11 V- (power)
part B pins: 5 IN+ (in), 6 IN- (in), 7 OUT (out)
part C pins: 8 OUT (out), 9 IN- (in), 10 IN+ (in)
part D pins: 12 IN+ (in), 13 IN- (in), 14 OUT (out)
part A text: Vcc; Vee

## IC OPAMP LM358 GP 2 CIRCUIT 8SOIC
designator U?, comment LM358
Operational Amplifier, Dual, 700 Khz, 2, 0.3 V/ S, 3V To 32V, 1.5V To 16V, Soic, 8 Rohs Compliant: Yes; Manufacturer: Texas Instruments; Manufacturer Part Number: LM358DR; Number of Circuits: 2; Bandwidth: 700kHz; Supply Current: 1.2mA; Slew Rate: 0.3V/µs; Output Current: 30mA; Voltage Gain: 100dB; Input Bias Current: 250nA; Input Offset Voltage (Vos): 7mV; Operating Supply Current: 1mA; Amplifier Type: GENERAL PURPOSE; Common Mode Rejection Ratio: 65dB; Supplier 1: Mouser; RoHS: Yes; Category: Amplifiers - Op Amps, Buffer, Instrumentation; Stock 1: 182537; Pricing 1: 1=0.45, 10=0.312, 50=0.312, 100=0.148, 1000=0.112, 2500=0.1, 10000=0.077, 50000=0.073 (USD); Mount: Surface Mount; Case/Package: SOIC; Number of Pins: 8; Min Operating Temperature: 0°C; Max Operating Temperature: 70°C; Packaging: Tape and Reel; Number of Channels: 2; Gain Bandwidth Product: 700kHz; Operating Supply Voltage: 16V; Package Quantity: 2500; Max Supply Voltage: 32V; Min Supply Voltage: 3V; Min Dual Supply Voltage: 1.5V; Max Dual Supply Voltage: 16V; Output Current per Channel: 30mA; Series: -; Technology: BIPOLAR; Number of Amplifiers: 2; Number of Elements: 2; Unity Gain Bandwidth Product: 700kHz; Thickness: 1.58mm; Radiation Hardening: No; Lead Free: Lead Free; RoHS Compliant: Yes; Reach SVHC Compliant: No; ComponentLink1URL: https://datasheet.ciiva.com/1795/lm358-1795488.pdf?src-supplier=Digi-Key; ComponentLink1Description: https://datasheet.ciiva.com/1795/lm358-1795488.pdf?src-supplier=Digi-Key; ComponentLink2URL: https://datasheet.ciiva.com/27056/2016330-27056228.pdf?src-supplier=Jameco; ComponentLink2Description: https://datasheet.ciiva.com/27056/2016330-27056228.pdf?src-supplier=Jameco; ComponentLink3URL: https://datasheet.ciiva.com/7709/1874566-7709823.pdf?src-supplier=Element14; ComponentLink3Description: https://datasheet.ciiva.com/7709/1874566-7709823.pdf?src-supplier=Element14; ComponentLink4URL: https://datasheet.ciiva.com/46385/1874566-46385851.pdf?src-supplier=Element14; ComponentLink4Description: https://datasheet.ciiva.com/46385/1874566-46385851.pdf?src-supplier=Element14; ComponentLink5URL: https://datasheet.ciiva.com/46390/1874566-46390414.pdf?src-supplier=Element14; ComponentLink5Description: https://datasheet.ciiva.com/46390/1874566-46390414.pdf?src-supplier=Element14; ComponentLink6URL: https://datasheet.ciiva.com/1795/lm358-1795487.pdf?src-supplier=Digi-Key; ComponentLink6Description: https://datasheet.ciiva.com/1795/lm358-1795487.pdf?src-supplier=Digi-Key; ComponentLink7URL: https://datasheet.ciiva.com/1795/lm358-1795489.pdf?src-supplier=Digi-Key; ComponentLink7Description: https://datasheet.ciiva.com/1795/lm358-1795489.pdf?src-supplier=Digi-Key; ComponentLink8URL: https://datasheet.ciiva.com/2973/lm358a-2973386.pdf?src-supplier=Avnet; ComponentLink8Description: https://datasheet.ciiva.com/2973/lm358a-2973386.pdf?src-supplier=Avnet; Supplier Part Number 1: 595-LM358DR
footprint SOIC-8 (SOP, 8-Leads, Body 5.0x4.0mm (max), Pitch 1.27mm, IPC Medium Density)
part A pins: 1 OUT, 2 IN-, 3 IN+, 4 V- (power), 8 V+ (power)
part B pins: 5 IN+, 6 IN-, 7 OUT
part A text: Vcc; Vee

## IC PFC NCP1654 CTRLR CCM 133KHZ 8SOIC
designator U?, comment NCP1654
NCP1654BD133R2G; Power Factor Controller; 146 kHz; 9 - 20 V; 8-Pin SOIC; Manufacturer: ON Semiconductor; Max Supply Voltage: 20V; Min Supply Voltage: -300mV; Switching Frequency: 146kHz; Max Supply Current: 6mA; Supplier 1: Future Electronics; Manufacturer Part Number: NCP1654BD133R2G; RoHS: Yes; Category: Integrated Circuits (ICs); Pricing 1: 1=0.55, 15=0.495, 75=0.465, 250=0.445, 1250=0.405 (USD); Mount: Surface Mount; Case/Package: SOIC; Number of Pins: 8; Min Operating Temperature: -40°C; Max Operating Temperature: 125°C; Packaging: Tape and Reel; Package Quantity: 2500; Series: -; Length: 5mm; Width: 4mm; Height: 1.5mm; Radiation Hardening: No; Lead Free: Lead Free; Halogen Free: Halogen Free; RoHS Compliant: Yes; ComponentLink1URL: https://datasheet.ciiva.com/6602/ncp1654-d-6602841.pdf?src-supplier=Digi-Key; ComponentLink1Description: https://datasheet.ciiva.com/6602/ncp1654-d-6602841.pdf?src-supplier=Digi-Key; ComponentLink2URL: https://datasheet.ciiva.com/6602/ncp1654-d-6602843.pdf?src-supplier=Digi-Key; ComponentLink2Description: https://datasheet.ciiva.com/6602/ncp1654-d-6602843.pdf?src-supplier=Digi-Key; ComponentLink3URL: https://datasheet.ciiva.com/6602/ncp1654-d-6602844.pdf?src-supplier=Digi-Key; ComponentLink3Description: https://datasheet.ciiva.com/6602/ncp1654-d-6602844.pdf?src-supplier=Digi-Key; Supplier Part Number 1: 5178805
footprint SOIC-8 (SOP, 8-Leads, Body 5.0x4.0mm (max), Pitch 1.27mm, IPC Medium Density)
pins: 1 GND, 2 VM, 3 CS, 4 BO, 5 Vcontrol, 6 FB, 7 VCC, 8 DRV

## IC PWR SWITCH AP2176SG-13 P-CHANNEL 1:2 8SOP
designator U?, comment AP2176SG
IC USB PWR SWITCH 1A DUAL 8SOP; Manufacturer: Diodes; Manufacturer Part Number: AP2176SG-13; Number of Outputs: 2; Max Supply Voltage: 5.5V; Min Supply Voltage: 2.7V; Interface: On/Off; Fault Protection: Over Temperature,Reverse Current; Output Configuration: High Side; Supplier 1: Digi-Key; Stock 1: 145492; Pricing 1: 1=0.9, 10=0.805, 25=0.7644, 100=0.6279, 250=0.58696, 500=0.5187, 1000=0.4095 (USD); Mount: Surface Mount; Case/Package: SOP; Number of Pins: 8; Weight: 0.030018oz; Min Operating Temperature: -40°C; Max Operating Temperature: 85°C; Packaging: Tape and Reel; Package Quantity: 2500; Max Output Current: 1A; Series: -; Number of Switches: 2; Radiation Hardening: No; Reach SVHC Compliant: Yes; RoHS Compliant: Yes; ComponentLink1URL: https://datasheet.ciiva.com/4924/ap2166-76-85938-4924357.pdf?src-supplier=Mouser; ComponentLink1Description: https://datasheet.ciiva.com/4924/ap2166-76-85938-4924357.pdf?src-supplier=Mouser; Supplier Part Number 1: AP2176SGDIDKR-ND
footprint SOP 8
pins: 1 ENA, 2 ~{FLAGA}, 3 ~{FLAGB}, 4 ENB, 5 OUTB, 6 GND, 7 IN, 8 OUTA

## IC REG LINEAR 5V 150MA SOT23-5
designator U?, comment MIC5205-5.0
IC REG LDO 5V 0.15A SOT23-5; Manufacturer: Microchip; Manufacturer Part Number: MIC5205-5.0YM5-TR; Dropout Voltage: 165mV; Max Output Current: 150mA; Number of Outputs: 1; Min Input Voltage: 2.5V; Max Input Voltage: 16V; Polarity: Positive; Accuracy: 1%; Power Supply Rejection Ratio (PSRR): 75dB; Output Type: Fixed; Supplier 1: Digi-Key; Stock 1: 0; Pricing 1: 1=0.54, 25=0.456, 100=0.4134 (USD); Mount: Surface Mount; Case/Package: SOT-23; Number of Pins: 5; Min Operating Temperature: -40°C; Max Operating Temperature: 125°C; Package Quantity: 1; Packaging: Tape and Reel; Output Voltage: 5V; Output Current: 150mA; Max Supply Voltage: 16V; Min Supply Voltage: 2.5V; Nominal Output Voltage: 5V; Number of Regulators: 1; Min Output Voltage: 5V; Max Output Voltage: 5V; Termination: SMD/SMT; Output Voltage Accuracy: 1%; Current Rating: 150mA; Series: -; Length: 2.9mm; Width: 1.6mm; Height: 1.1mm; Radiation Hardening: No; Reach SVHC Compliant: Yes; Lead Free: Lead Free; RoHS Compliant: Yes; ComponentLink1URL: https://datasheet.ciiva.com/13026/mic5205-13026076.pdf?src-supplier=Mouser; ComponentLink1Description: https://datasheet.ciiva.com/13026/mic5205-13026076.pdf?src-supplier=Mouser; ComponentLink2URL: https://datasheet.ciiva.com/16286/mic5205-16286510.pdf?src-supplier=Future+Electronics; ComponentLink2Description: https://datasheet.ciiva.com/16286/mic5205-16286510.pdf?src-supplier=Future+Electronics; Supplier Part Number 1: 576-1261-1-ND
footprint SOT23-5
pins: 1 VIN, 2 GND, 3 EN, 4 BP, 5 VOUT

## IC REG UC3843 CTRLR BOOST/FLYBACK 8SOIC
designator U?, comment UC3843
Boost, Flyback Regulator Positive, Isolation Capable Output Step-Up, Step-Up/Step-Down DC-DC Controller IC 8-SOIC; Manufacturer: STMicroelectronics; Manufacturer Part Number: E-UC3843BD1013TR; Rise Time: 50ns; Switching Frequency: 500kHz; Max Duty Cycle: 100%; Output Voltage: 5.1V; Output Current: 1A; Number of Outputs: 1; Max Supply Voltage: 30V; Quiescent Current: 12mA; Supplier 1: Avnet; RoHS: No; Category: Voltage Regulators - Switching; Mount: Surface Mount; Case/Package: SOIC; Number of Pins: 8; Min Operating Temperature: 0°C; Max Operating Temperature: 70°C; Packaging: Tape and Reel; Package Quantity: 1; Fall Time: 50ns; Max Frequency: 500kHz; Duty Cycle: 100%; Topology: Boost,Flyback; Series: E-UC3843; Lead Free: Lead Free; RoHS Compliant: No; ComponentLink1URL: https://datasheet.ciiva.com/2023/cd00000966-2023036.pdf?src-supplier=Digi-Key; ComponentLink1Description: https://datasheet.ciiva.com/2023/cd00000966-2023036.pdf?src-supplier=Digi-Key; Supplier Part Number 1: E-UC3843BD1013TR
footprint SOIC-8 (SOP, 8-Leads, Body 5.0x4.0mm (max), Pitch 1.27mm, IPC Medium Density)
pins: 1 COMP, 2 FB, 3 CS, 4 RC, 5 GND, 6 OUT, 7 VCC, 8 REF

## IC RFID PN5180 RDR/TRAN 13.56MZ 40HVQFN
designator U?, comment PN5180
PN5180 Series 3.3 V 13.56 MHz High Performance Multiprotocol - HVQFN-40; Manufacturer: NXP Semiconductors; Manufacturer Part Number: PN5180A0HN/C3Y; Supplier 1: Digi-Key; Stock 1: 16760; Pricing 1: 1=10.73, 10=9.69, 25=9.2396, 100=8.0228, 250=7.6622, 500=6.98612, 1000=6.08469 (USD); RoHS Compliant: Yes; ComponentLink1URL: https://datasheet.octopart.com/PN5180A0HN-C3Y-NXP-Semiconductors-datasheet-142412671.pdf?src-supplier=Future+Electronics; ComponentLink1Description: https://datasheet.octopart.com/PN5180A0HN-C3Y-NXP-Semiconductors-datasheet-142412671.pdf?src-supplier=Future+Electronics; Supplier Part Number 1: 568-13913-1-ND
footprint HVQFN40_SOT618-1_NXP
pins: 1 NSS, 2 AUX2, 3 MOSI, 4 PVSS, 5 MISO, 6 PVDD, 7 SCK, 8 BUSY, 9 VSS, 10 NRESET, 11 NC, 12 VBAT, 13 VBAT, 14 NC, 15 RXN, 16 RXP, 17 VMID, 18 TX2, 19 TVSS, 20 NC, 21 TX1, 22 TVDD, 23 ANT1, 24 ANT2, 25 VDHF, 26 VBAT, 27 VSS, 28 AVDD, 29 VDD, 30 DVDD, 31 NC, 32 NC, 33 NC, 34 NC, 35 NC, 36 CLK1, 37 CLK2, 38 GPO1/CLK_REQ, 39 IRQ, 40 AUX1, 41 THERMAL

## IC RFID PN5321 RDR/TRAN  13.56MZ 40HVQFN
designator U?, comment PN5321
PN532 Series 5.5 V 13.56 MHz Near Field Communication (NFC) Controller -HVQFN-40; Manufacturer: NXP Semiconductors; Manufacturer Part Number: PN5321A3HN/C106;55; Min Supply Voltage: 2.7V; Max Supply Voltage: 5.5V; Operating Supply Current: 12uA; Supplier 1: Digi-Key; Stock 1: 2495; Pricing 1: 1=13.89, 10=12.569, 25=11.5764, 80=10.58413, 230=9.92265 (USD); Mount: Surface Mount; Case/Package: QFN; Number of Pins: 40; Contact Plating: Gold; Weight: 0.004138oz; Min Operating Temperature: -25°C; Max Operating Temperature: 85°C; Frequency: 13.56MHz; Packaging: Tray; Package Quantity: 490; Max Frequency: 13.56MHz; Operating Frequency: 13.56 MHz; Radiation Hardening: No; Reach SVHC Compliant: Yes; Lead Free: Lead Free; ComponentLink1URL: https://datasheet.ciiva.com/1577/1751691-1577121.pdf?src-supplier=Farnell; ComponentLink1Description: https://datasheet.ciiva.com/1577/1751691-1577121.pdf?src-supplier=Farnell; ComponentLink2URL: https://datasheet.ciiva.com/1172/1391932-1172875.pdf?src-supplier=Newark; ComponentLink2Description: https://datasheet.ciiva.com/1172/1391932-1172875.pdf?src-supplier=Newark; ComponentLink3URL: https://datasheet.ciiva.com/12073/75016623-2868-12073795.pdf?src-supplier=Mouser; ComponentLink3Description: https://datasheet.ciiva.com/12073/75016623-2868-12073795.pdf?src-supplier=Mouser; ComponentLink4URL: https://datasheet.ciiva.com/22617/1751691-22617799.pdf?src-supplier=Element14; ComponentLink4Description: https://datasheet.ciiva.com/22617/1751691-22617799.pdf?src-supplier=Element14; Supplier Part Number 1: 568-8600-ND
footprint HVQFN40_SOT618-1_NXP
pins: 1 DVSS, 2 LOADMOD, 3 TVSS1, 4 TX1, 5 TVDD, 6 TX2, 7 TVSS2, 8 AVDD, 9 VMID, 10 RX, 11 AVSS, 12 AUX1, 13 AUX2, 14 OSCIN, 15 OSCOUT, 16 I0, 17 I1, 18 TESTEN, 19 P35, 20 N.C., 21 N.C., 22 N.C., 23 PVDD, 24 P30/UART_RX, 25 P70_IRQ, 26 RSTOUT_N, 27 NSS/P50_SCL/HSU_RX, 28 MOSI/SDA/HSU_TX, 29 MISO / P71, 30 SCK/P72, 31 P31/UART_TX, 32 P32_INT0, 33 P33_INT1, 34 P34/SIC_CLK, 35 SIGOUT, 36 SIGIN, 37 SVDD, 38 RSTPD_N, 39 DVDD, 40 VBAR, 41 THERMAL

## IC RFID RDR/TRN 13.56MZ 32VFQFPN
designator U?, comment CR95HF-VMD5T
RFID Reader/Transponder IC 13.56MHz ISO 14443, ISO 15693, 18000-3, MIFARE, NFC SPI, UART 2.7V ~ 5.5V 32-VFQFN Exposed Pad; Manufacturer: STMicroelectronics; Number of Terminals/Pins: 32; Data Rate: 2Mbps; Output Power: 230mW; Max Supply Voltage: 3.3V; Max Supply Current: 600uA; Max Frequency: 2MHz; Power Dissipation: 1W; Output Power (dBm): 230dBm; Supplier 1: Digi-Key; Manufacturer Part Number: CR95HF-VMD5T; Stock 1: 49064; Pricing 1: 1=4.07, 10=3.63, 25=3.2672, 100=2.9766, 250=2.6862, 500=2.41032, 1000=2.178 (USD); Mount: Surface Mount; Number of Pins: 32; Contact Plating: Tin,Gold; Min Operating Temperature: -25°C; Max Operating Temperature: 85°C; Packaging: Tape and Reel; Interface: SPI,UART; Package Quantity: 3000; Series: -; Frequency: 13.56MHz; Min Supply Voltage: 2.7V; Nominal Supply Current: 600uA; Supply Current: 600uA; Lead Free: Lead Free; RoHS Compliant: Yes; ComponentLink1URL: https://datasheet.ciiva.com/12179/dm00025644-99745-12179371.pdf?src-supplier=Mouser; ComponentLink1Description: https://datasheet.ciiva.com/12179/dm00025644-99745-12179371.pdf?src-supplier=Mouser; ComponentLink2URL: https://datasheet.ciiva.com/4175/1224dm00025644-4175526.pdf?src-supplier=Arrow+Electronics; ComponentLink2Description: https://datasheet.ciiva.com/4175/1224dm00025644-4175526.pdf?src-supplier=Arrow+Electronics; ComponentLink3URL: https://datasheet.ciiva.com/24152/dm00025644-24152368.pdf?src-supplier=Future+Electronics; ComponentLink3Description: https://datasheet.ciiva.com/24152/dm00025644-24152368.pdf?src-supplier=Future+Electronics; Supplier Part Number 1: 497-15737-1-ND
footprint VFQFN-32 (32-VFQFN Exposed Pad)
pins: 1 TX1, 2 TX2, 3 NC, 4 NC, 5 RX1, 6 RX2, 7 NC, 8 GND_RX, 9 ST_R0, 10 NC, 11 NC, 12 UART_RX, 13 VPS, 14 UART_TX, 15 SPI_SS, 16 SPI_MISO, 17 SPI_MOSI, 18 SPI_SCK, 19 SSI_0, 20 SSI_1, 21 ST_R1, 22 GND, 23 NC, 24 NC, 25 NC, 26 NC, 27 NC, 28 NC, 29 XIN, 30 XOUT, 31 GND_TX, 32 VPS_TX, 33 EP

## IC TPS54331DR REG BUCK ADJUSTABLE 3A 8SOIC
designator U?, comment TPS54331DR
IC REG BUCK ADJ 3A 8SOIC; Manufacturer: Texas Instruments; Output Voltage: 25V; Number of Outputs: 1; Switching Frequency: 570kHz; Max Input Voltage: 28V; Min Input Voltage: 3.5V; Min Output Voltage: 800mV; Synchronous Rectifier: No; Quiescent Current: 110uA; Output Type: Adjustable; Output Configuration: Positive; Supplier 1: Digi-Key; Manufacturer Part Number: TPS54331DR; Stock 1: 9628; Pricing 1: 1=1.8, 10=1.616, 25=1.5244, 100=1.2988, 250=1.21952, 500=1.06708, 1000=0.88415 (USD); Case/Package: D; Number of Pins: 8; Weight: 0.002561oz; Contact Plating: Gold; Min Operating Temperature: -40°C; Max Operating Temperature: 150°C; Output Current: 3A; Packaging: Tape and Reel; Package Quantity: 1; Max Output Current: 3A; Max Output Voltage: 25V; Operating Supply Voltage: 28V; Series: Eco-Mode™; Length: 5mm; Width: 4mm; Height: 1.5mm; Radiation Hardening: No; Lead Free: Lead Free; RoHS Compliant: Yes; Reach SVHC Compliant: Yes; ComponentLink1URL: https://datasheet.ciiva.com/41462/001014850-da-01-en-ic-reg-buck-adj-3a-tps54331dr-soic-8-tid-41462698.pdf?src-supplier=Conrad; ComponentLink1Description: https://datasheet.ciiva.com/41462/001014850-da-01-en-ic-reg-buck-adj-3a-tps54331dr-soic-8-tid-41462698.pdf?src-supplier=Conrad; ComponentLink2URL: https://datasheet.ciiva.com/2034/tps54331-2034841.pdf?src-supplier=Digi-Key; ComponentLink2Description: https://datasheet.ciiva.com/2034/tps54331-2034841.pdf?src-supplier=Digi-Key; ComponentLink3URL: https://datasheet.ciiva.com/2034/tps54331-2034840.pdf?src-supplier=Digi-Key; ComponentLink3Description: https://datasheet.ciiva.com/2034/tps54331-2034840.pdf?src-supplier=Digi-Key; ComponentLink4URL: https://datasheet.ciiva.com/2034/tps54331-2034842.pdf?src-supplier=Digi-Key; ComponentLink4Description: https://datasheet.ciiva.com/2034/tps54331-2034842.pdf?src-supplier=Digi-Key; ComponentLink5URL: https://datasheet.ciiva.com/14303/tps54331-14303672.pdf?src-supplier=Avnet; ComponentLink5Description: https://datasheet.ciiva.com/14303/tps54331-14303672.pdf?src-supplier=Avnet; Supplier Part Number 1: 296-26991-6-ND
footprint SOP 8
pins: 1 BOOT, 2 VIN, 3 ENA, 4 SS, 5 VSENSE, 6 COMP, 7 GND, 8 PH

## IC VREF TL431 SHUNT ADJ 1% SOT23-3
designator U?, comment TL431AIDBZR
V-Ref Adjustable 2.495V to 36V 100mA Automotive 3-Pin SOT-23 T/R; Manufacturer: Texas Instruments; Solder: SMT; Tolerance: 1%; Cathode Current: 700uA; Reference Type: Shunt,Adjustable; Max Input Voltage: 37V; Temperature Coefficient: 92ppm/°C; Number of Channels: 1; MPN: TL431AIDBZR; Value: TL431AIDBZR; Category: IC; Supplier 1: Mouser; Manufacturer Part Number: TL431AIDBZR; RoHS: Yes; Stock 1: 807108; Pricing 1: 1=0.43, 10=0.3, 50=0.3, 100=0.15, 1000=0.116, 10000=0.089 (USD); Case/Package: SOT-23; Number of Pins: 3; Min Operating Temperature: -40°C; Max Operating Temperature: 125°C; Packaging: Tape and Reel; Output Voltage: 36V; Output Current: 100mA; Series: -; Package Quantity: 1; Max Output Current: 100mA; Min Output Voltage: 2.495V; Max Output Voltage: 36V; Reference Voltage: 36V; Output Type: Adjustable; Min Input Voltage: 2.495V; Radiation Hardening: No; RoHS Compliant: Yes; Lead Free: Lead Free; Reach SVHC Compliant: No; ComponentLink1URL: https://datasheet.ciiva.com/3235/tl432b-3235600.pdf?src-supplier=Avnet; ComponentLink1Description: https://datasheet.ciiva.com/3235/tl432b-3235600.pdf?src-supplier=Avnet; ComponentLink2URL: https://datasheet.ciiva.com/15148/getdatasheetpartid-171576-15148968.pdf?src-supplier=Verical; ComponentLink2Description: https://datasheet.ciiva.com/15148/getdatasheetpartid-171576-15148968.pdf?src-supplier=Verical; ComponentLink3URL: https://datasheet.ciiva.com/41462/001014548-da-01-en-ic-vref-shunt-prec-tl431aidbzr-sot-3-tid-41462400.pdf?src-supplier=Conrad; ComponentLink3Description: https://datasheet.ciiva.com/41462/001014548-da-01-en-ic-vref-shunt-prec-tl431aidbzr-sot-3-tid-41462400.pdf?src-supplier=Conrad; ComponentLink4URL: https://datasheet.ciiva.com/46397/1887475-46397705.pdf?src-supplier=Element14; ComponentLink4Description: https://datasheet.ciiva.com/46397/1887475-46397705.pdf?src-supplier=Element14; ComponentLink5URL: https://datasheet.ciiva.com/2006/tl431a-2006188.pdf?src-supplier=Digi-Key; ComponentLink5Description: https://datasheet.ciiva.com/2006/tl431a-2006188.pdf?src-supplier=Digi-Key; ComponentLink6URL: https://datasheet.ciiva.com/2006/tl431a-2006187.pdf?src-supplier=Digi-Key; ComponentLink6Description: https://datasheet.ciiva.com/2006/tl431a-2006187.pdf?src-supplier=Digi-Key; ComponentLink7URL: https://datasheet.ciiva.com/2006/tl431a-2006189.pdf?src-supplier=Digi-Key; ComponentLink7Description: https://datasheet.ciiva.com/2006/tl431a-2006189.pdf?src-supplier=Digi-Key; Supplier Part Number 1: 595-TL431AIDBZR
footprint SOT 23
pins: 1 CATHODE, 2 REF, 3 ANODE

## ICL 5 OHM 20% 4A 13MM
designator TH?, comment 5D-11
Inrush Current Limiter 5 Ohms ±20% 4 A 0.512" (13.00mm); Manufacturer PN: SCN5D-11; Manufacturer: SOCAY Elec; Manufacturer Part Number: MF72-005D11; Resistance: 5R; Value: 5R-4A; Datasheet: https://datasheet.lcsc.com/lcsc/2304140030_SOCAY-Elec-SCN5D-11_C305626.pdf; Sale Link: https://www.lcsc.com/product-detail/NTC-Thermistors_SOCAY-Elec-SCN5D-11_C305626.html; Distributor: LCSC; Price: *; NI: *; Distributor PN: C305626; Supplier 1: Digi-Key; RoHS: Yes; Category: Thermistors; Stock 1: 5996; Pricing 1: 1=0.47, 5=0.452, 10=0.439, 50=0.3694, 100=0.3066, 250=0.27876, 500=0.23694, 1000=0.20907, 5000=0.18816 (USD); Tolerance: 20%; Packaging: Bulk; Series: MF72; Thickness: 5.5mm; Lead Free: Lead Free; ComponentLink1URL: http://www.cantherm.com/wp-content/uploads/2017/05/MF72_JUNE_2016_1.pdf?src-supplier=Digi-Key; ComponentLink1Description: http://www.cantherm.com/wp-content/uploads/2017/05/MF72_JUNE_2016_1.pdf?src-supplier=Digi-Key; Supplier Part Number 1: 317-1177-ND
footprint SCN5D-11
pins: 1, 2

## IND 560nH 50mA 20% 0603
designator L?, comment 560nH
Chip inductor, IDC,min = 50 mA, ±20%; Part Number: L0603-10µ; Manufacturer: Abracon; Manufacturer Part Number: ASMCI-0603-100M-T; Value: 10µH; Core Material: Ferrite; Current Rating: 50mA; Shielding: Shielded; Self Resonant Frequency: 20MHz; Inductance: 10uH; DC Resistance (DCR): 900mR; Test Frequency: 25MHz; Q Factor: 25; LatestRevisionDate: 2012-09-19; Pin Count: 2; Publisher: Nordic Semiconductor; Published: 2010-02-24; Footprint Doc: 0603; Mount: Surface Mount; Case/Package: 0603; Case Code (Metric): 1608; Case Code (Imperial): 0603; Weight: 0.000141oz; Min Operating Temperature: -40°C; Max Operating Temperature: 85°C; Package Quantity: 4000; Packaging: Tape and Reel; Tolerance: 20%; Max DC Current: 50mA; Termination: SMD/SMT; Length: 0.063inch; Width: 0.031inch; Height: 0.8mm; Height - Seated (Max): 0.039inch; RoHS Compliant: Yes; ComponentLink1URL: http://www.abracon.com/Magnetics/power/ASMCI-0603.pdf?src-supplier=Digi-Key; ComponentLink1Description: http://www.abracon.com/Magnetics/power/ASMCI-0603.pdf?src-supplier=Digi-Key; ComponentLink2URL: https://abracon.com/Magnetics/power/ASMCI-0603.pdf?src-supplier=Digi-Key; ComponentLink2Description: https://abracon.com/Magnetics/power/ASMCI-0603.pdf?src-supplier=Digi-Key; ComponentLink3URL: https://media.digikey.com/pdf/Data%20Sheets/Abracon%20Corp%20PDFs/ASMCI-0603_Dwg.PDF?src-supplier=Digi-Key; ComponentLink3Description: https://media.digikey.com/pdf/Data%20Sheets/Abracon%20Corp%20PDFs/ASMCI-0603_Dwg.PDF?src-supplier=Digi-Key; ComponentLink4URL: https://datasheet.octopart.com/ASMCI-0603-100M-T-Abracon-datasheet-137316594.pdf?src-supplier=Abracon+SCT; ComponentLink4Description: https://datasheet.octopart.com/ASMCI-0603-100M-T-Abracon-datasheet-137316594.pdf?src-supplier=Abracon+SCT; Series: LQB18NN_10; ComponentLink5URL: https://www.murata.com/~/media/webrenewal/support/library/catalog/products/inductor/chip/o05e.ashx?la=en-us&src-supplier=Digi-Key; ComponentLink5Description: https://www.murata.com/~/media/webrenewal/support/library/catalog/products/inductor/chip/o05e.ashx?la=en-us&src-supplier=Digi-Key; ComponentLink6URL: http://www.mouser.com/ds/2/281/o05e-522697.pdf?src-supplier=Mouser; ComponentLink6Description: http://www.mouser.com/ds/2/281/o05e-522697.pdf?src-supplier=Mouser; Supplier 1: Digi-Key; Stock 1: 23099; Pricing 1: 1=0.15, 10=0.139, 25=0.1236, 50=0.105, 100=0.0927, 250=0.085, 500=0.07726, 1000=0.0649 (USD); Supplier Part Number 1: 490-12025-1-ND
footprint INDC1608X06L (Chip Inductor, 2-Leads, Body 1.6x0.8mm, IPC High Density)
pins: 1, 2

## IND CD54 470H SMD
designator L?, comment 470uH
FIXED IND 470uH  320mOHM SMD; Part Number: L0402-3n9; Manufacturer: Taiyo; Manufacturer Part Number: HK100515NJ-T; Value: 3.9nH; Note: High frequency chip inductor ±5%; Inductance: 15nH; Current Rating: 300mA; Shielding: Unshielded; Q Factor: 8; Self Resonant Frequency: 3.5GHz; LatestRevisionDate: 2012-09-19; Pin Count: 2; Publisher: Nordic Semiconductor; Published: 2009-05-08; Footprint Doc: 0402; Mount: Surface Mount; Case/Package: 0402; Number of Pins: 2; Packaging: Cut Tape; Length: 1mm; Width: 500um; Height: 500um; Halogen Free: Halogen Free; Lead Free: Exempt
footprint CD54
pins: 1, 2